# EAGLE library part XY2500?-C(5.08)-9PIN (library con-xy2500)
XINYA XY2500 Connectors <http://www.china-xinya.com/en/> by Damian Nowak <http://nowakdamian.com> Basic specification: Max. voltage: 300 V Max. current: 15 A Pitch: 5.08 mm (0.2 inch) Pin dimension: 1.0 x 1.0 mm Materials: Housing: PA66(UL 94V-0) Solder pin: Brass, 1.0t, tin plated TME: TBG-5-PB-9P-GN
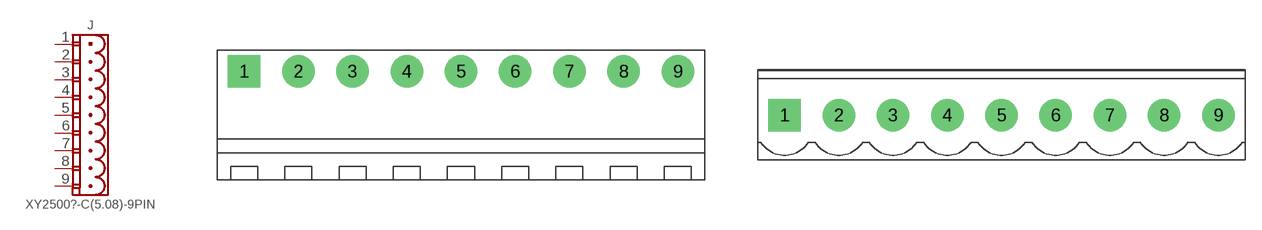
[diagram p7: symbol with the pads of XY2500R-C(5.08)-9PIN; footprints XY2500R-C(5.08)-9PIN, XY2500V-C(5.08)-9PIN]

Designator prefix J

## XY2500R-C(5.08)-9PIN  [XY2500R-C(5.08)-9PIN]
1  1
2  2
3  3
4  4
5  5
6  6
7  7
8  8
9  9

## XY2500V-C(5.08)-9PIN  [XY2500V-C(5.08)-9PIN]
Pads as for XY2500R-C(5.08)-9PIN

## Footprint XY2500R-C(5.08)-9PIN (pad centres in mm)
drill 1.5 pad 3.048 square: 1 -20.32,0
drill 1.5 pad 3.048: 2 -15.24,0; 3 -10.16,0; 4 -5.08,0; 5 0,0; 6 5.08,0; 7 10.16,0; 8 15.24,0; 9 20.32,0

## Footprint XY2500V-C(5.08)-9PIN (pad centres in mm)
drill 1.5 pad 3.048 square: 1 -20.32,0
drill 1.5 pad 3.048: 2 -15.24,0; 3 -10.16,0; 4 -5.08,0; 5 0,0; 6 5.08,0; 7 10.16,0; 8 15.24,0; 9 20.32,0